# Altium integrated library Micron Memory Parallel NOR Flash.IntLib: 720 symbols (part 72 of 216)
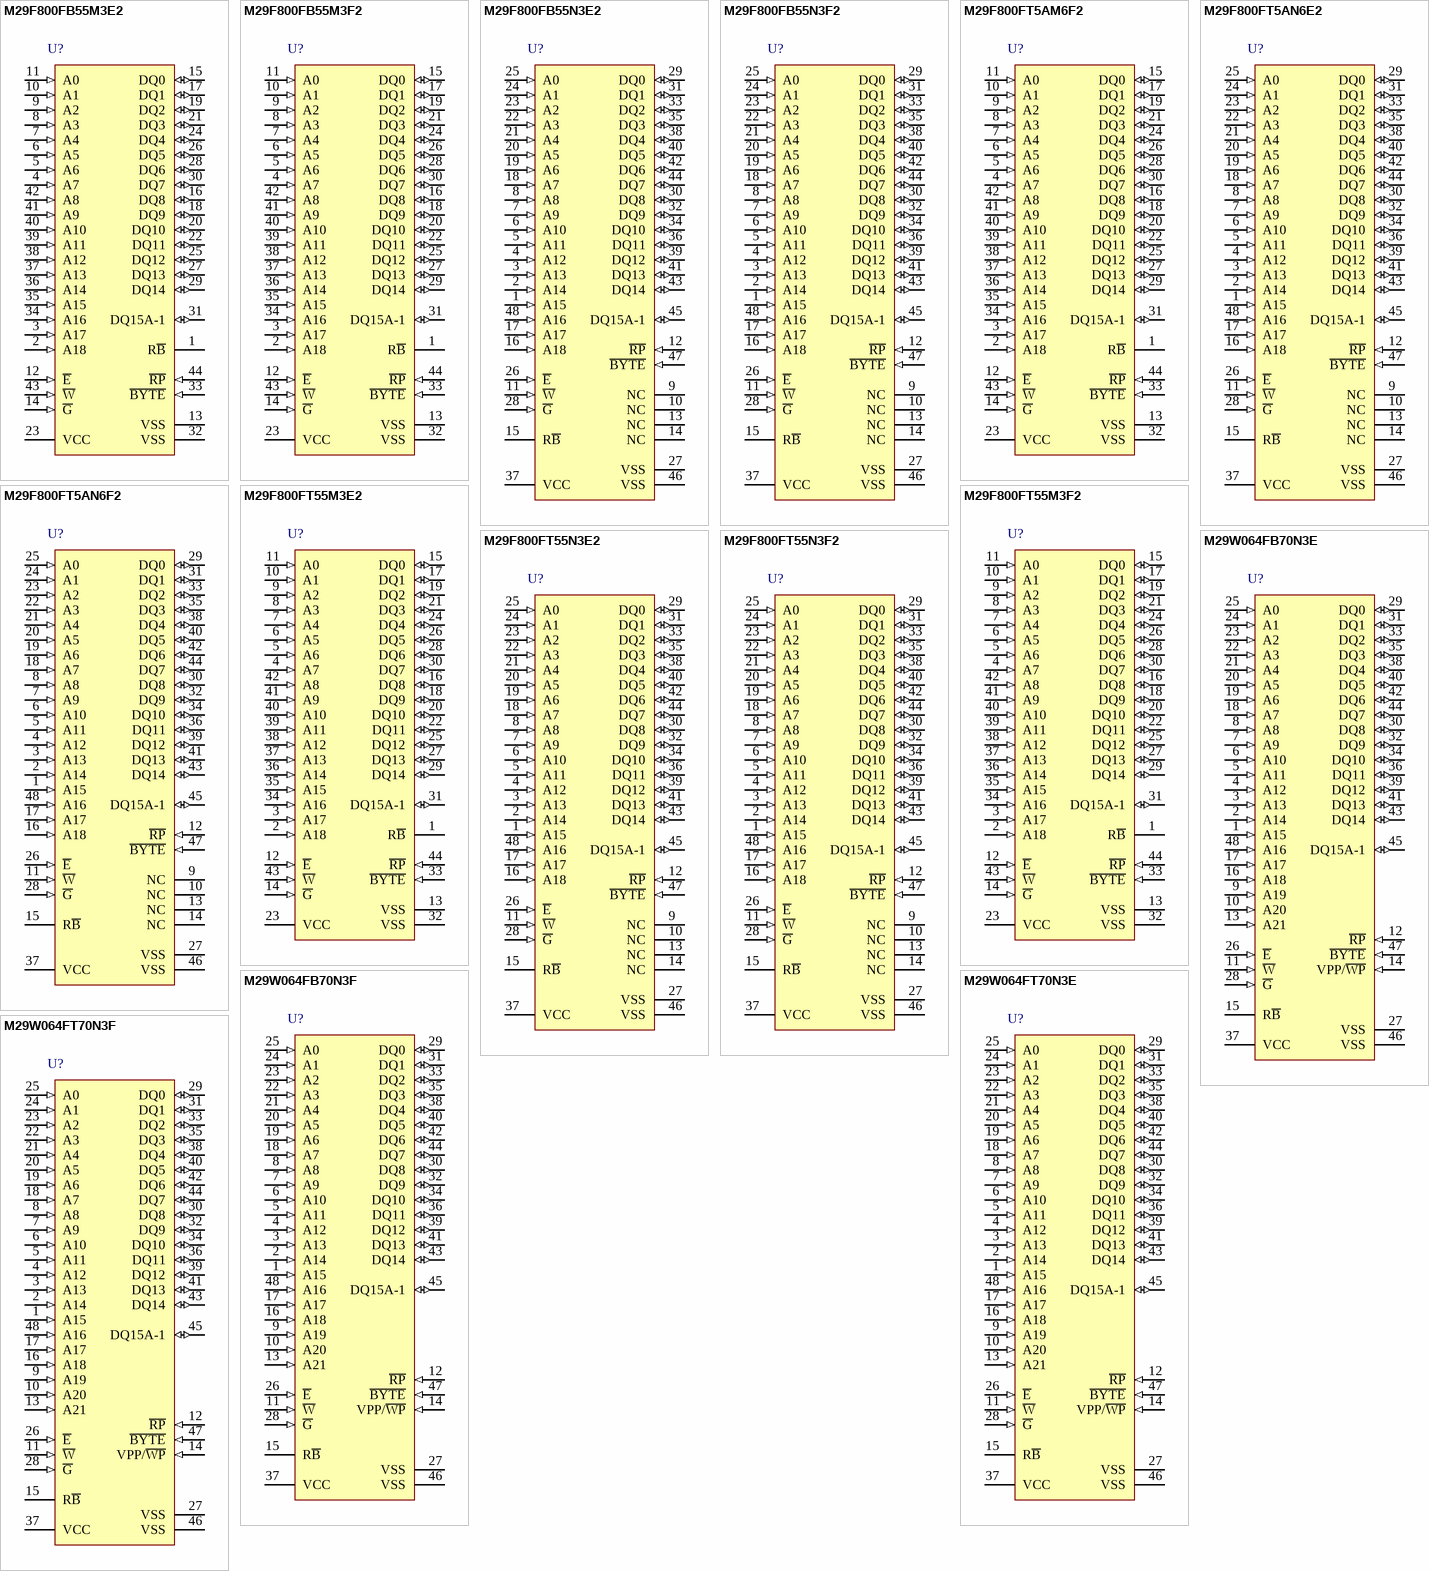
[diagram p118: symbols M29F800FB55M3E2 to M29W064FT70N3F]

## M29W064FB70N3E
designator U?
64 Mb (x8/x16) Automotive Parallel NOR Flash Memory, 70 ns, 2.7 to 3.6 V, 48-pin TSOP (N), Tray; Part Family: M29W; Manufacturer: Micron; PartNumber: M29W064FB70N3E; Density: 64Mb; Op Temp: -40C to +125C; Speed: 70ns; Voltage: 2.7V-3.6V; DatasheetVersion: Rev. 4; PackageVersion: Rev 11; PackageReference: MICT-N-48; PackageDescription: 48-Pin TSOP, 18.4 X 12 mm, Pitch 0.5 mm; RoHS: Yes; Width: x8/x16; Mounting Technology: Surface Mount; ComponentLink1Description: Manufacturer URL; ComponentLink1URL: http://www.micron.com/; ComponentLink2Description: Datasheet; ComponentLink2URL: http://www.micron.com/~/media/Documents/Products/Data%20Sheet/NOR%20Flash/Parallel/M29W/M29W064F.pdf; ComponentLink3Description: Package Specification; ComponentLink3URL: http://www.micron.com/~/media/Documents/Products/Data%20Sheet/NOR%20Flash/Parallel/P30/306666_P30_130nm_Discrete_DS.pdf
footprint MICT-N-48_N (SOP, 48-Leads, Body 12x18.4mm, Pitch 0.5mm, IPC Medium Density)
pins: 1 A15 (in) "The Address Input select the cells in the memory array to access during bus read operations. During bus write operations they control the commands sent to the command interface of the program/erase controller.", 2 A14 (in) "The Address Input select the cells in the memory array to access during bus read operations. During bus write operations they control the commands sent to the command interface of the program/erase controller.", 3 A13 (in) "The Address Input select the cells in the memory array to access during bus read operations. During bus write operations they control the commands sent to the command interface of the program/erase controller.", 4 A12 (in) "The Address Input select the cells in the memory array to access during bus read operations. During bus write operations they control the commands sent to the command interface of the program/erase controller.", 5 A11 (in) "The Address Input select the cells in the memory array to access during bus read operations. During bus write operations they control the commands sent to the command interface of the program/erase controller.", 6 A10 (in) "The Address Input select the cells in the memory array to access during bus read operations. During bus write operations they control the commands sent to the command interface of the program/erase controller.", 7 A9 (in) "The Address Input select the cells in the memory array to access during bus read operations. During bus write operations they control the commands sent to the command interface of the program/erase controller.", 8 A8 (in) "The Address Input select the cells in the memory array to access during bus read operations. During bus write operations they control the commands sent to the command interface of the program/erase controller.", 9 A19 (in) "The Address Input select the cells in the memory array to access during bus read operations. During bus write operations they control the commands sent to the command interface of the program/erase controller.", 10 A20 (in) "The Address Input select the cells in the memory array to access during bus read operations. During bus write operations they control the commands sent to the command interface of the program/erase controller.", 11 ~{W} (in) "The Write Enable, W\, controls the bus write operation of the memory’s command interface.", 12 ~{RP} (in) "The reset/block temporary unprotect pin can be used to apply a hardware reset to the  memory or to temporarily unprotect all blocks that have been protected. Note that if VPP/W\P\ is at VIL , then the two outermost boot (See Datasheet)", 13 A21 (in) "The Address Input select the cells in the memory array to access during bus read operations. During bus write operations they control the commands sent to the command interface of the program/erase controller.", 14 VPP/~{WP} (in) "The VPP/write protect pin provides two functions. The VPP function allows the memory to use an external high voltage power supply to reduce the time required for unlock bypass program operations. The write protect function (See Datasheet)", 15 R~{B} (hiz) "The ready/busy pin is an open-drain output that can be used to identify when the device is performing a program or erase operation. During program or erase operations ready/busy is Low, VOL . Ready/busy is high-impedance (See Datasheet)", 16 A18 (in) "The Address Input select the cells in the memory array to access during bus read operations. During bus write operations they control the commands sent to the command interface of the program/erase controller.", 17 A17 (in) "The Address Input select the cells in the memory array to access during bus read operations. During bus write operations they control the commands sent to the command interface of the program/erase controller.", 18 A7 (in) "The Address Input select the cells in the memory array to access during bus read operations. During bus write operations they control the commands sent to the command interface of the program/erase controller.", 19 A6 (in) "The Address Input select the cells in the memory array to access during bus read operations. During bus write operations they control the commands sent to the command interface of the program/erase controller.", 20 A5 (in) "The Address Input select the cells in the memory array to access during bus read operations. During bus write operations they control the commands sent to the command interface of the program/erase controller.", 21 A4 (in) "The Address Input select the cells in the memory array to access during bus read operations. During bus write operations they control the commands sent to the command interface of the program/erase controller.", 22 A3 (in) "The Address Input select the cells in the memory array to access during bus read operations. During bus write operations they control the commands sent to the command interface of the program/erase controller.", 23 A2 (in) "The Address Input select the cells in the memory array to access during bus read operations. During bus write operations they control the commands sent to the command interface of the program/erase controller.", 24 A1 (in) "The address inputs select the cells in the memory array to access during bus read operations. During bus write operations they control the commands sent to the command interface of the program/erase controller.", 25 A0 (in) "The address input select the cells in the memory array to access during bus read operations. During bus write operations they control the commands sent to the command interface of the program/erase controller.", 26 ~{E} (in) "The Chip Enable, E\, activates the memory, allowing bus read and bus write operations to be performed. When Chip Enable is High, VIH, all other pins are ignored.", 27 VSS (power) "VSS is the reference for all voltage measurements. The device features two VSS pins which must be both connected to the system ground.", 28 ~{G} (in) "The Output Enable, G\, controls the bus read operation of the memory.", 29 DQ0 (io) "The data I/O Output the data stored at the selected address during a bus read operation.During bus write operations they represent the commands sent to the command interface ofthe program/erase controller.", 30 DQ8 (io) "The data I/O outputs the data stored at the selected address during a bus read operation when B\Y\T\E\ is High, VIH. When B\Y\T\E\ is Low, VIL, these pins are not used and are high impedance. During bus write operations the (See Datasheet)", 31 DQ1 (io) "The data I/O Output the data stored at the selected address during a bus read operation.During bus write operations they represent the commands sent to the command interface ofthe program/erase controller.", 32 DQ9 (io) "The data I/O outputs the data stored at the selected address during a bus read operation when B\Y\T\E\ is High, VIH. When B\Y\T\E\ is Low, VIL, these pins are not used and are high impedance. During bus write operations the (See Datasheet)", 33 DQ2 (io) "The data I/O Output the data stored at the selected address during a bus read operation.During bus write operations they represent the commands sent to the command interface ofthe program/erase controller.", 34 DQ10 (io) "The data I/O outputs the data stored at the selected address during a bus read operation when B\Y\T\E\ is High, VIH. When B\Y\T\E\ is Low, VIL, these pins are not used and are high impedance. During bus write operations the (See Datasheet)", 35 DQ3 (io) "The data I/O outputs the data stored at the selected address during a bus read operation.During bus write operations they represent the commands sent to the command interface ofthe program/erase controller.", 36 DQ11 (io) "The data I/O outputs the data stored at the selected address during a bus read operation when B\Y\T\E\ is High, VIH. When B\Y\T\E\ is Low, VIL, these pins are not used and are high impedance. During bus write operations the (See Datasheet)", 37 VCC (power) "VCC provides the power supply for all operations (read, program and erase).The command interface is disabled when the VCC supply voltage is less than the lockout voltage, VLKO. This prevents bus write operations from (See Datasheet)", 38 DQ4 (io) "The data I/O OUTPUT the data stored at the selected address during a bus read operation.During bus write operations they represent the commands sent to the command interface ofthe program/erase controller.", 39 DQ12 (io) "The data I/O outputs the data stored at the selected address during a bus read operation when B\Y\T\E\ is High, VIH. When B\Y\T\E\ is Low, VIL, these pins are not used and are high impedance. During bus write operations the (See Datasheet)", 40 DQ5 (io) "The data I/O outputs the data stored at the selected address during a bus read operation.During bus write operations they represent the commands sent to the command interface ofthe program/erase controller.", 41 DQ13 (io) "The data I/O outputs the data stored at the selected address during a bus read operation when B\Y\T\E\ is High, VIH. When B\Y\T\E\ is Low, VIL, these pins are not used and are high impedance. During bus write operations the (See Datasheet)", 42 DQ6 (io) "The data I/O outputs the data stored at the selected address during a bus read operation.During bus write operations they represent the commands sent to the command interface ofthe program/erase controller.", 43 DQ14 (io) "The data I/O outputs the data stored at the selected address during a bus read operation when B\Y\T\E\ is High, VIH. When B\Y\T\E\ is Low, VIL, these pins are not used and are high impedance. During bus write operations the (See Datasheet)", 44 DQ7 (io) "The data I/O outputs the data stored at the selected address during a bus read operation.During bus write operations they represent the commands sent to the command interface ofthe program/erase controller.", 45 DQ15A-1 (io) "When B\Y\T\E\ is High, VIH, this pin behaves as a data input/output pin (as DQ8-DQ14). When B\Y\T\E\ is Low, VIL, this pin behaves as an address pin; DQ15A-1 Low will select the LSB of the addressed word, DQ15A-1 High will (See Datasheet)", 46 VSS (power) "VSS is the reference for all voltage measurements. The device features two VSS pins which must be both connected to the system ground.", 47 ~{BYTE} (in) "The byte/word organization select pin is used to switch between the x8 and x16 bus modes of the memory. When byte/word organization select is Low, VIL, the memory is in x8 mode,when it is High, VIH, the memory is in x16 mode.", 48 A16 (in) "The Address Input select the cells in the memory array to access during bus read operations. During bus write operations they control the commands sent to the command interface of the program/erase controller."

## M29W064FB70N3F
designator U?
64 Mb (x8/x16) Automotive Parallel NOR Flash Memory, 70 ns, 2.7 to 3.6 V, 48-pin TSOP (N), Tape & Reel; Part Family: M29W; Manufacturer: Micron; PartNumber: M29W064FB70N3F; Density: 64Mb; Op Temp: -40C to +125C; Speed: 70ns; Voltage: 2.7V-3.6V; DatasheetVersion: Rev. 4; PackageVersion: Rev 11; PackageReference: MICT-N-48; PackageDescription: 48-Pin TSOP, 18.4 X 12 mm, Pitch 0.5 mm; RoHS: Yes; Width: x8/x16; Mounting Technology: Surface Mount; ComponentLink1Description: Manufacturer URL; ComponentLink1URL: http://www.micron.com/; ComponentLink2Description: Datasheet; ComponentLink2URL: http://www.micron.com/~/media/Documents/Products/Data%20Sheet/NOR%20Flash/Parallel/M29W/M29W064F.pdf; ComponentLink3Description: Package Specification; ComponentLink3URL: http://www.micron.com/~/media/Documents/Products/Data%20Sheet/NOR%20Flash/Parallel/P30/306666_P30_130nm_Discrete_DS.pdf
footprint MICT-N-48_N (SOP, 48-Leads, Body 12x18.4mm, Pitch 0.5mm, IPC Medium Density)
pins: 1 A15 (in) "The Address Input select the cells in the memory array to access during bus read operations. During bus write operations they control the commands sent to the command interface of the program/erase controller.", 2 A14 (in) "The Address Input select the cells in the memory array to access during bus read operations. During bus write operations they control the commands sent to the command interface of the program/erase controller.", 3 A13 (in) "The Address Input select the cells in the memory array to access during bus read operations. During bus write operations they control the commands sent to the command interface of the program/erase controller.", 4 A12 (in) "The Address Input select the cells in the memory array to access during bus read operations. During bus write operations they control the commands sent to the command interface of the program/erase controller.", 5 A11 (in) "The Address Input select the cells in the memory array to access during bus read operations. During bus write operations they control the commands sent to the command interface of the program/erase controller.", 6 A10 (in) "The Address Input select the cells in the memory array to access during bus read operations. During bus write operations they control the commands sent to the command interface of the program/erase controller.", 7 A9 (in) "The Address Input select the cells in the memory array to access during bus read operations. During bus write operations they control the commands sent to the command interface of the program/erase controller.", 8 A8 (in) "The Address Input select the cells in the memory array to access during bus read operations. During bus write operations they control the commands sent to the command interface of the program/erase controller.", 9 A19 (in) "The Address Input select the cells in the memory array to access during bus read operations. During bus write operations they control the commands sent to the command interface of the program/erase controller.", 10 A20 (in) "The Address Input select the cells in the memory array to access during bus read operations. During bus write operations they control the commands sent to the command interface of the program/erase controller.", 11 ~{W} (in) "The Write Enable, W\, controls the bus write operation of the memory’s command interface.", 12 ~{RP} (in) "The reset/block temporary unprotect pin can be used to apply a hardware reset to the  memory or to temporarily unprotect all blocks that have been protected. Note that if VPP/W\P\ is at VIL , then the two outermost boot (See Datasheet)", 13 A21 (in) "The Address Input select the cells in the memory array to access during bus read operations. During bus write operations they control the commands sent to the command interface of the program/erase controller.", 14 VPP/~{WP} (in) "The VPP/write protect pin provides two functions. The VPP function allows the memory to use an external high voltage power supply to reduce the time required for unlock bypass program operations. The write protect function (See Datasheet)", 15 R~{B} (hiz) "The ready/busy pin is an open-drain output that can be used to identify when the device is performing a program or erase operation. During program or erase operations ready/busy is Low, VOL . Ready/busy is high-impedance (See Datasheet)", 16 A18 (in) "The Address Input select the cells in the memory array to access during bus read operations. During bus write operations they control the commands sent to the command interface of the program/erase controller.", 17 A17 (in) "The Address Input select the cells in the memory array to access during bus read operations. During bus write operations they control the commands sent to the command interface of the program/erase controller.", 18 A7 (in) "The Address Input select the cells in the memory array to access during bus read operations. During bus write operations they control the commands sent to the command interface of the program/erase controller.", 19 A6 (in) "The Address Input select the cells in the memory array to access during bus read operations. During bus write operations they control the commands sent to the command interface of the program/erase controller.", 20 A5 (in) "The Address Input select the cells in the memory array to access during bus read operations. During bus write operations they control the commands sent to the command interface of the program/erase controller.", 21 A4 (in) "The Address Input select the cells in the memory array to access during bus read operations. During bus write operations they control the commands sent to the command interface of the program/erase controller.", 22 A3 (in) "The Address Input select the cells in the memory array to access during bus read operations. During bus write operations they control the commands sent to the command interface of the program/erase controller.", 23 A2 (in) "The Address Input select the cells in the memory array to access during bus read operations. During bus write operations they control the commands sent to the command interface of the program/erase controller.", 24 A1 (in) "The address inputs select the cells in the memory array to access during bus read operations. During bus write operations they control the commands sent to the command interface of the program/erase controller.", 25 A0 (in) "The address input select the cells in the memory array to access during bus read operations. During bus write operations they control the commands sent to the command interface of the program/erase controller.", 26 ~{E} (in) "The Chip Enable, E\, activates the memory, allowing bus read and bus write operations to be performed. When Chip Enable is High, VIH, all other pins are ignored.", 27 VSS (power) "VSS is the reference for all voltage measurements. The device features two VSS pins which must be both connected to the system ground.", 28 ~{G} (in) "The Output Enable, G\, controls the bus read operation of the memory.", 29 DQ0 (io) "The data I/O Output the data stored at the selected address during a bus read operation.During bus write operations they represent the commands sent to the command interface ofthe program/erase controller.", 30 DQ8 (io) "The data I/O outputs the data stored at the selected address during a bus read operation when B\Y\T\E\ is High, VIH. When B\Y\T\E\ is Low, VIL, these pins are not used and are high impedance. During bus write operations the (See Datasheet)", 31 DQ1 (io) "The data I/O Output the data stored at the selected address during a bus read operation.During bus write operations they represent the commands sent to the command interface ofthe program/erase controller.", 32 DQ9 (io) "The data I/O outputs the data stored at the selected address during a bus read operation when B\Y\T\E\ is High, VIH. When B\Y\T\E\ is Low, VIL, these pins are not used and are high impedance. During bus write operations the (See Datasheet)", 33 DQ2 (io) "The data I/O Output the data stored at the selected address during a bus read operation.During bus write operations they represent the commands sent to the command interface ofthe program/erase controller.", 34 DQ10 (io) "The data I/O outputs the data stored at the selected address during a bus read operation when B\Y\T\E\ is High, VIH. When B\Y\T\E\ is Low, VIL, these pins are not used and are high impedance. During bus write operations the (See Datasheet)", 35 DQ3 (io) "The data I/O outputs the data stored at the selected address during a bus read operation.During bus write operations they represent the commands sent to the command interface ofthe program/erase controller.", 36 DQ11 (io) "The data I/O outputs the data stored at the selected address during a bus read operation when B\Y\T\E\ is High, VIH. When B\Y\T\E\ is Low, VIL, these pins are not used and are high impedance. During bus write operations the (See Datasheet)", 37 VCC (power) "VCC provides the power supply for all operations (read, program and erase).The command interface is disabled when the VCC supply voltage is less than the lockout voltage, VLKO. This prevents bus write operations from (See Datasheet)", 38 DQ4 (io) "The data I/O OUTPUT the data stored at the selected address during a bus read operation.During bus write operations they represent the commands sent to the command interface ofthe program/erase controller.", 39 DQ12 (io) "The data I/O outputs the data stored at the selected address during a bus read operation when B\Y\T\E\ is High, VIH. When B\Y\T\E\ is Low, VIL, these pins are not used and are high impedance. During bus write operations the (See Datasheet)", 40 DQ5 (io) "The data I/O outputs the data stored at the selected address during a bus read operation.During bus write operations they represent the commands sent to the command interface ofthe program/erase controller.", 41 DQ13 (io) "The data I/O outputs the data stored at the selected address during a bus read operation when B\Y\T\E\ is High, VIH. When B\Y\T\E\ is Low, VIL, these pins are not used and are high impedance. During bus write operations the (See Datasheet)", 42 DQ6 (io) "The data I/O outputs the data stored at the selected address during a bus read operation.During bus write operations they represent the commands sent to the command interface ofthe program/erase controller.", 43 DQ14 (io) "The data I/O outputs the data stored at the selected address during a bus read operation when B\Y\T\E\ is High, VIH. When B\Y\T\E\ is Low, VIL, these pins are not used and are high impedance. During bus write operations the (See Datasheet)", 44 DQ7 (io) "The data I/O outputs the data stored at the selected address during a bus read operation.During bus write operations they represent the commands sent to the command interface ofthe program/erase controller.", 45 DQ15A-1 (io) "When B\Y\T\E\ is High, VIH, this pin behaves as a data input/output pin (as DQ8-DQ14). When B\Y\T\E\ is Low, VIL, this pin behaves as an address pin; DQ15A-1 Low will select the LSB of the addressed word, DQ15A-1 High will (See Datasheet)", 46 VSS (power) "VSS is the reference for all voltage measurements. The device features two VSS pins which must be both connected to the system ground.", 47 ~{BYTE} (in) "The byte/word organization select pin is used to switch between the x8 and x16 bus modes of the memory. When byte/word organization select is Low, VIL, the memory is in x8 mode,when it is High, VIH, the memory is in x16 mode.", 48 A16 (in) "The Address Input select the cells in the memory array to access during bus read operations. During bus write operations they control the commands sent to the command interface of the program/erase controller."

## M29W064FT70N3E
designator U?
64 Mb (x8/x16) Automotive Parallel NOR Flash Memory, 70 ns, 2.7 to 3.6 V, 48-pin TSOP (N), Tray; Part Family: M29W; Manufacturer: Micron; PartNumber: M29W064FT70N3E; Density: 64Mb; Op Temp: -40C to +85C; Speed: 70ns; Voltage: 2.7V-3.6V; DatasheetVersion: Rev. 4; PackageVersion: Rev 11; PackageReference: MICT-N-48; PackageDescription: 48-Pin TSOP, 18.4 X 12 mm, Pitch 0.5 mm; RoHS: Yes; Width: x8/x16; Mounting Technology: Surface Mount; ComponentLink1Description: Manufacturer URL; ComponentLink1URL: http://www.micron.com/; ComponentLink2Description: Datasheet; ComponentLink2URL: http://www.micron.com/~/media/Documents/Products/Data%20Sheet/NOR%20Flash/Parallel/M29W/M29W064F.pdf; ComponentLink3Description: Package Specification; ComponentLink3URL: http://www.micron.com/~/media/Documents/Products/Data%20Sheet/NOR%20Flash/Parallel/P30/306666_P30_130nm_Discrete_DS.pdf
footprint MICT-N-48_N (SOP, 48-Leads, Body 12x18.4mm, Pitch 0.5mm, IPC Medium Density)
pins: 1 A15 (in) "The Address Input select the cells in the memory array to access during bus read operations. During bus write operations they control the commands sent to the command interface of the program/erase controller.", 2 A14 (in) "The Address Input select the cells in the memory array to access during bus read operations. During bus write operations they control the commands sent to the command interface of the program/erase controller.", 3 A13 (in) "The Address Input select the cells in the memory array to access during bus read operations. During bus write operations they control the commands sent to the command interface of the program/erase controller.", 4 A12 (in) "The Address Input select the cells in the memory array to access during bus read operations. During bus write operations they control the commands sent to the command interface of the program/erase controller.", 5 A11 (in) "The Address Input select the cells in the memory array to access during bus read operations. During bus write operations they control the commands sent to the command interface of the program/erase controller.", 6 A10 (in) "The Address Input select the cells in the memory array to access during bus read operations. During bus write operations they control the commands sent to the command interface of the program/erase controller.", 7 A9 (in) "The Address Input select the cells in the memory array to access during bus read operations. During bus write operations they control the commands sent to the command interface of the program/erase controller.", 8 A8 (in) "The Address Input select the cells in the memory array to access during bus read operations. During bus write operations they control the commands sent to the command interface of the program/erase controller.", 9 A19 (in) "The Address Input select the cells in the memory array to access during bus read operations. During bus write operations they control the commands sent to the command interface of the program/erase controller.", 10 A20 (in) "The Address Input select the cells in the memory array to access during bus read operations. During bus write operations they control the commands sent to the command interface of the program/erase controller.", 11 ~{W} (in) "The Write Enable, W\, controls the bus write operation of the memory’s command interface.", 12 ~{RP} (in) "The reset/block temporary unprotect pin can be used to apply a hardware reset to the  memory or to temporarily unprotect all blocks that have been protected. Note that if VPP/W\P\ is at VIL , then the two outermost boot (See Datasheet)", 13 A21 (in) "The Address Input select the cells in the memory array to access during bus read operations. During bus write operations they control the commands sent to the command interface of the program/erase controller.", 14 VPP/~{WP} (in) "The VPP/write protect pin provides two functions. The VPP function allows the memory to use an external high voltage power supply to reduce the time required for unlock bypass program operations. The write protect function (See Datasheet)", 15 R~{B} (hiz) "The ready/busy pin is an open-drain output that can be used to identify when the device is performing a program or erase operation. During program or erase operations ready/busy is Low, VOL . Ready/busy is high-impedance (See Datasheet)", 16 A18 (in) "The Address Input select the cells in the memory array to access during bus read operations. During bus write operations they control the commands sent to the command interface of the program/erase controller.", 17 A17 (in) "The Address Input select the cells in the memory array to access during bus read operations. During bus write operations they control the commands sent to the command interface of the program/erase controller.", 18 A7 (in) "The Address Input select the cells in the memory array to access during bus read operations. During bus write operations they control the commands sent to the command interface of the program/erase controller.", 19 A6 (in) "The Address Input select the cells in the memory array to access during bus read operations. During bus write operations they control the commands sent to the command interface of the program/erase controller.", 20 A5 (in) "The Address Input select the cells in the memory array to access during bus read operations. During bus write operations they control the commands sent to the command interface of the program/erase controller.", 21 A4 (in) "The Address Input select the cells in the memory array to access during bus read operations. During bus write operations they control the commands sent to the command interface of the program/erase controller.", 22 A3 (in) "The Address Input select the cells in the memory array to access during bus read operations. During bus write operations they control the commands sent to the command interface of the program/erase controller.", 23 A2 (in) "The Address Input select the cells in the memory array to access during bus read operations. During bus write operations they control the commands sent to the command interface of the program/erase controller.", 24 A1 (in) "The address inputs select the cells in the memory array to access during bus read operations. During bus write operations they control the commands sent to the command interface of the program/erase controller.", 25 A0 (in) "The address input select the cells in the memory array to access during bus read operations. During bus write operations they control the commands sent to the command interface of the program/erase controller.", 26 ~{E} (in) "The Chip Enable, E\, activates the memory, allowing bus read and bus write operations to be performed. When Chip Enable is High, VIH, all other pins are ignored.", 27 VSS (power) "VSS is the reference for all voltage measurements. The device features two VSS pins which must be both connected to the system ground.", 28 ~{G} (in) "The Output Enable, G\, controls the bus read operation of the memory.", 29 DQ0 (io) "The data I/O Output the data stored at the selected address during a bus read operation.During bus write operations they represent the commands sent to the command interface ofthe program/erase controller.", 30 DQ8 (io) "The data I/O outputs the data stored at the selected address during a bus read operation when B\Y\T\E\ is High, VIH. When B\Y\T\E\ is Low, VIL, these pins are not used and are high impedance. During bus write operations the (See Datasheet)", 31 DQ1 (io) "The data I/O Output the data stored at the selected address during a bus read operation.During bus write operations they represent the commands sent to the command interface ofthe program/erase controller.", 32 DQ9 (io) "The data I/O outputs the data stored at the selected address during a bus read operation when B\Y\T\E\ is High, VIH. When B\Y\T\E\ is Low, VIL, these pins are not used and are high impedance. During bus write operations the (See Datasheet)", 33 DQ2 (io) "The data I/O Output the data stored at the selected address during a bus read operation.During bus write operations they represent the commands sent to the command interface ofthe program/erase controller.", 34 DQ10 (io) "The data I/O outputs the data stored at the selected address during a bus read operation when B\Y\T\E\ is High, VIH. When B\Y\T\E\ is Low, VIL, these pins are not used and are high impedance. During bus write operations the (See Datasheet)", 35 DQ3 (io) "The data I/O outputs the data stored at the selected address during a bus read operation.During bus write operations they represent the commands sent to the command interface ofthe program/erase controller.", 36 DQ11 (io) "The data I/O outputs the data stored at the selected address during a bus read operation when B\Y\T\E\ is High, VIH. When B\Y\T\E\ is Low, VIL, these pins are not used and are high impedance. During bus write operations the (See Datasheet)", 37 VCC (power) "VCC provides the power supply for all operations (read, program and erase).The command interface is disabled when the VCC supply voltage is less than the lockout voltage, VLKO. This prevents bus write operations from (See Datasheet)", 38 DQ4 (io) "The data I/O OUTPUT the data stored at the selected address during a bus read operation.During bus write operations they represent the commands sent to the command interface ofthe program/erase controller.", 39 DQ12 (io) "The data I/O outputs the data stored at the selected address during a bus read operation when B\Y\T\E\ is High, VIH. When B\Y\T\E\ is Low, VIL, these pins are not used and are high impedance. During bus write operations the (See Datasheet)", 40 DQ5 (io) "The data I/O outputs the data stored at the selected address during a bus read operation.During bus write operations they represent the commands sent to the command interface ofthe program/erase controller.", 41 DQ13 (io) "The data I/O outputs the data stored at the selected address during a bus read operation when B\Y\T\E\ is High, VIH. When B\Y\T\E\ is Low, VIL, these pins are not used and are high impedance. During bus write operations the (See Datasheet)", 42 DQ6 (io) "The data I/O outputs the data stored at the selected address during a bus read operation.During bus write operations they represent the commands sent to the command interface ofthe program/erase controller.", 43 DQ14 (io) "The data I/O outputs the data stored at the selected address during a bus read operation when B\Y\T\E\ is High, VIH. When B\Y\T\E\ is Low, VIL, these pins are not used and are high impedance. During bus write operations the (See Datasheet)", 44 DQ7 (io) "The data I/O outputs the data stored at the selected address during a bus read operation.During bus write operations they represent the commands sent to the command interface ofthe program/erase controller.", 45 DQ15A-1 (io) "When B\Y\T\E\ is High, VIH, this pin behaves as a data input/output pin (as DQ8-DQ14). When B\Y\T\E\ is Low, VIL, this pin behaves as an address pin; DQ15A-1 Low will select the LSB of the addressed word, DQ15A-1 High will (See Datasheet)", 46 VSS (power) "VSS is the reference for all voltage measurements. The device features two VSS pins which must be both connected to the system ground.", 47 ~{BYTE} (in) "The byte/word organization select pin is used to switch between the x8 and x16 bus modes of the memory. When byte/word organization select is Low, VIL, the memory is in x8 mode,when it is High, VIH, the memory is in x16 mode.", 48 A16 (in) "The Address Input select the cells in the memory array to access during bus read operations. During bus write operations they control the commands sent to the command interface of the program/erase controller."

## M29W064FT70N3F
designator U?
64 Mb (x8/x16) Automotive Parallel NOR Flash Memory, 70 ns, 2.7 to 3.6 V, 48-pin TSOP (N), Tape & Reel; Part Family: M29W; Manufacturer: Micron; PartNumber: M29W064FT70N3F; Density: 64Mb; Op Temp: -40C to +125C; Speed: 70ns; Voltage: 2.7V-3.6V; DatasheetVersion: Rev. 4; PackageVersion: Rev 11; PackageReference: MICT-N-48; PackageDescription: 48-Pin TSOP, 18.4 X 12 mm, Pitch 0.5 mm; RoHS: Yes; Width: x8/x16; Mounting Technology: Surface Mount; ComponentLink1Description: Manufacturer URL; ComponentLink1URL: http://www.micron.com/; ComponentLink2Description: Datasheet; ComponentLink2URL: http://www.micron.com/~/media/Documents/Products/Data%20Sheet/NOR%20Flash/Parallel/M29W/M29W064F.pdf; ComponentLink3Description: Package Specification; ComponentLink3URL: http://www.micron.com/~/media/Documents/Products/Data%20Sheet/NOR%20Flash/Parallel/P30/306666_P30_130nm_Discrete_DS.pdf
footprint MICT-N-48_N (SOP, 48-Leads, Body 12x18.4mm, Pitch 0.5mm, IPC Medium Density)
pins: 1 A15 (in) "The Address Input select the cells in the memory array to access during bus read operations. During bus write operations they control the commands sent to the command interface of the program/erase controller.", 2 A14 (in) "The Address Input select the cells in the memory array to access during bus read operations. During bus write operations they control the commands sent to the command interface of the program/erase controller.", 3 A13 (in) "The Address Input select the cells in the memory array to access during bus read operations. During bus write operations they control the commands sent to the command interface of the program/erase controller.", 4 A12 (in) "The Address Input select the cells in the memory array to access during bus read operations. During bus write operations they control the commands sent to the command interface of the program/erase controller.", 5 A11 (in) "The Address Input select the cells in the memory array to access during bus read operations. During bus write operations they control the commands sent to the command interface of the program/erase controller.", 6 A10 (in) "The Address Input select the cells in the memory array to access during bus read operations. During bus write operations they control the commands sent to the command interface of the program/erase controller.", 7 A9 (in) "The Address Input select the cells in the memory array to access during bus read operations. During bus write operations they control the commands sent to the command interface of the program/erase controller.", 8 A8 (in) "The Address Input select the cells in the memory array to access during bus read operations. During bus write operations they control the commands sent to the command interface of the program/erase controller.", 9 A19 (in) "The Address Input select the cells in the memory array to access during bus read operations. During bus write operations they control the commands sent to the command interface of the program/erase controller.", 10 A20 (in) "The Address Input select the cells in the memory array to access during bus read operations. During bus write operations they control the commands sent to the command interface of the program/erase controller.", 11 ~{W} (in) "The Write Enable, W\, controls the bus write operation of the memory’s command interface.", 12 ~{RP} (in) "The reset/block temporary unprotect pin can be used to apply a hardware reset to the  memory or to temporarily unprotect all blocks that have been protected. Note that if VPP/W\P\ is at VIL , then the two outermost boot (See Datasheet)", 13 A21 (in) "The Address Input select the cells in the memory array to access during bus read operations. During bus write operations they control the commands sent to the command interface of the program/erase controller.", 14 VPP/~{WP} (in) "The VPP/write protect pin provides two functions. The VPP function allows the memory to use an external high voltage power supply to reduce the time required for unlock bypass program operations. The write protect function (See Datasheet)", 15 R~{B} (hiz) "The ready/busy pin is an open-drain output that can be used to identify when the device is performing a program or erase operation. During program or erase operations ready/busy is Low, VOL . Ready/busy is high-impedance (See Datasheet)", 16 A18 (in) "The Address Input select the cells in the memory array to access during bus read operations. During bus write operations they control the commands sent to the command interface of the program/erase controller.", 17 A17 (in) "The Address Input select the cells in the memory array to access during bus read operations. During bus write operations they control the commands sent to the command interface of the program/erase controller.", 18 A7 (in) "The Address Input select the cells in the memory array to access during bus read operations. During bus write operations they control the commands sent to the command interface of the program/erase controller.", 19 A6 (in) "The Address Input select the cells in the memory array to access during bus read operations. During bus write operations they control the commands sent to the command interface of the program/erase controller.", 20 A5 (in) "The Address Input select the cells in the memory array to access during bus read operations. During bus write operations they control the commands sent to the command interface of the program/erase controller.", 21 A4 (in) "The Address Input select the cells in the memory array to access during bus read operations. During bus write operations they control the commands sent to the command interface of the program/erase controller.", 22 A3 (in) "The Address Input select the cells in the memory array to access during bus read operations. During bus write operations they control the commands sent to the command interface of the program/erase controller.", 23 A2 (in) "The Address Input select the cells in the memory array to access during bus read operations. During bus write operations they control the commands sent to the command interface of the program/erase controller.", 24 A1 (in) "The address inputs select the cells in the memory array to access during bus read operations. During bus write operations they control the commands sent to the command interface of the program/erase controller.", 25 A0 (in) "The address input select the cells in the memory array to access during bus read operations. During bus write operations they control the commands sent to the command interface of the program/erase controller.", 26 ~{E} (in) "The Chip Enable, E\, activates the memory, allowing bus read and bus write operations to be performed. When Chip Enable is High, VIH, all other pins are ignored.", 27 VSS (power) "VSS is the reference for all voltage measurements. The device features two VSS pins which must be both connected to the system ground.", 28 ~{G} (in) "The Output Enable, G\, controls the bus read operation of the memory.", 29 DQ0 (io) "The data I/O Output the data stored at the selected address during a bus read operation.During bus write operations they represent the commands sent to the command interface ofthe program/erase controller.", 30 DQ8 (io) "The data I/O outputs the data stored at the selected address during a bus read operation when B\Y\T\E\ is High, VIH. When B\Y\T\E\ is Low, VIL, these pins are not used and are high impedance. During bus write operations the (See Datasheet)", 31 DQ1 (io) "The data I/O Output the data stored at the selected address during a bus read operation.During bus write operations they represent the commands sent to the command interface ofthe program/erase controller.", 32 DQ9 (io) "The data I/O outputs the data stored at the selected address during a bus read operation when B\Y\T\E\ is High, VIH. When B\Y\T\E\ is Low, VIL, these pins are not used and are high impedance. During bus write operations the (See Datasheet)", 33 DQ2 (io) "The data I/O Output the data stored at the selected address during a bus read operation.During bus write operations they represent the commands sent to the command interface ofthe program/erase controller.", 34 DQ10 (io) "The data I/O outputs the data stored at the selected address during a bus read operation when B\Y\T\E\ is High, VIH. When B\Y\T\E\ is Low, VIL, these pins are not used and are high impedance. During bus write operations the (See Datasheet)", 35 DQ3 (io) "The data I/O outputs the data stored at the selected address during a bus read operation.During bus write operations they represent the commands sent to the command interface ofthe program/erase controller.", 36 DQ11 (io) "The data I/O outputs the data stored at the selected address during a bus read operation when B\Y\T\E\ is High, VIH. When B\Y\T\E\ is Low, VIL, these pins are not used and are high impedance. During bus write operations the (See Datasheet)", 37 VCC (power) "VCC provides the power supply for all operations (read, program and erase).The command interface is disabled when the VCC supply voltage is less than the lockout voltage, VLKO. This prevents bus write operations from (See Datasheet)", 38 DQ4 (io) "The data I/O OUTPUT the data stored at the selected address during a bus read operation.During bus write operations they represent the commands sent to the command interface ofthe program/erase controller.", 39 DQ12 (io) "The data I/O outputs the data stored at the selected address during a bus read operation when B\Y\T\E\ is High, VIH. When B\Y\T\E\ is Low, VIL, these pins are not used and are high impedance. During bus write operations the (See Datasheet)", 40 DQ5 (io) "The data I/O outputs the data stored at the selected address during a bus read operation.During bus write operations they represent the commands sent to the command interface ofthe program/erase controller.", 41 DQ13 (io) "The data I/O outputs the data stored at the selected address during a bus read operation when B\Y\T\E\ is High, VIH. When B\Y\T\E\ is Low, VIL, these pins are not used and are high impedance. During bus write operations the (See Datasheet)", 42 DQ6 (io) "The data I/O outputs the data stored at the selected address during a bus read operation.During bus write operations they represent the commands sent to the command interface ofthe program/erase controller.", 43 DQ14 (io) "The data I/O outputs the data stored at the selected address during a bus read operation when B\Y\T\E\ is High, VIH. When B\Y\T\E\ is Low, VIL, these pins are not used and are high impedance. During bus write operations the (See Datasheet)", 44 DQ7 (io) "The data I/O outputs the data stored at the selected address during a bus read operation.During bus write operations they represent the commands sent to the command interface ofthe program/erase controller.", 45 DQ15A-1 (io) "When B\Y\T\E\ is High, VIH, this pin behaves as a data input/output pin (as DQ8-DQ14). When B\Y\T\E\ is Low, VIL, this pin behaves as an address pin; DQ15A-1 Low will select the LSB of the addressed word, DQ15A-1 High will (See Datasheet)", 46 VSS (power) "VSS is the reference for all voltage measurements. The device features two VSS pins which must be both connected to the system ground.", 47 ~{BYTE} (in) "The byte/word organization select pin is used to switch between the x8 and x16 bus modes of the memory. When byte/word organization select is Low, VIL, the memory is in x8 mode,when it is High, VIH, the memory is in x16 mode.", 48 A16 (in) "The Address Input select the cells in the memory array to access during bus read operations. During bus write operations they control the commands sent to the command interface of the program/erase controller."

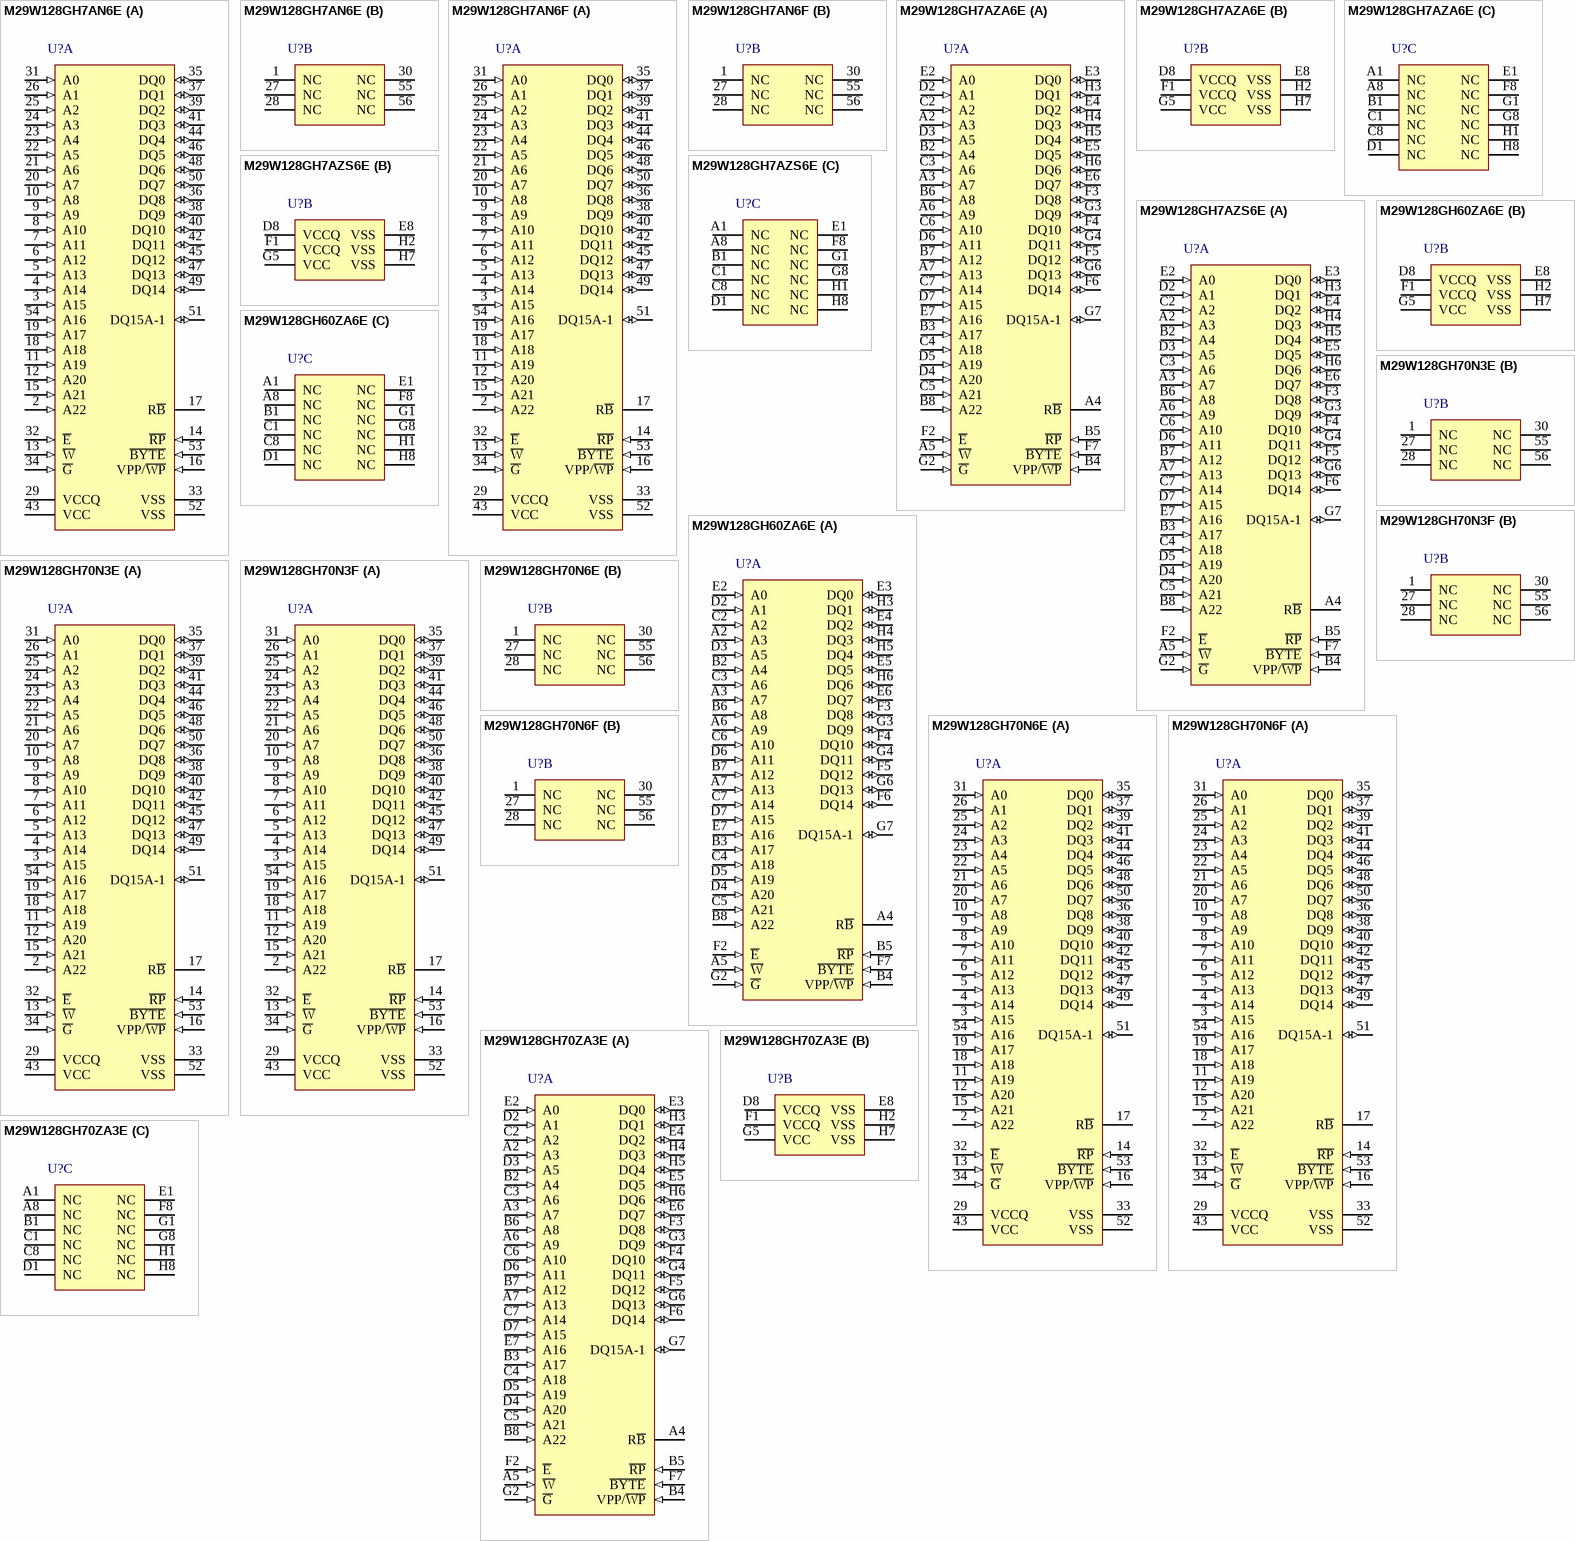
[diagram p18: symbols M29W128GH7AN6E to M29W128GH70ZA3E]